# Altium footprint library footprint.PcbLib: 56 footprints (part 4 of 4)
Each footprint in its own frame and in the unit in brackets; x right, y up, seen from the top. Pads: shape width x height; smd on the part's side, far side on the other; paste and mask are expansions set on the pad; w line width, h text height; cw(c..) or ccw(c..) is an arc to the next point about the centre after c.
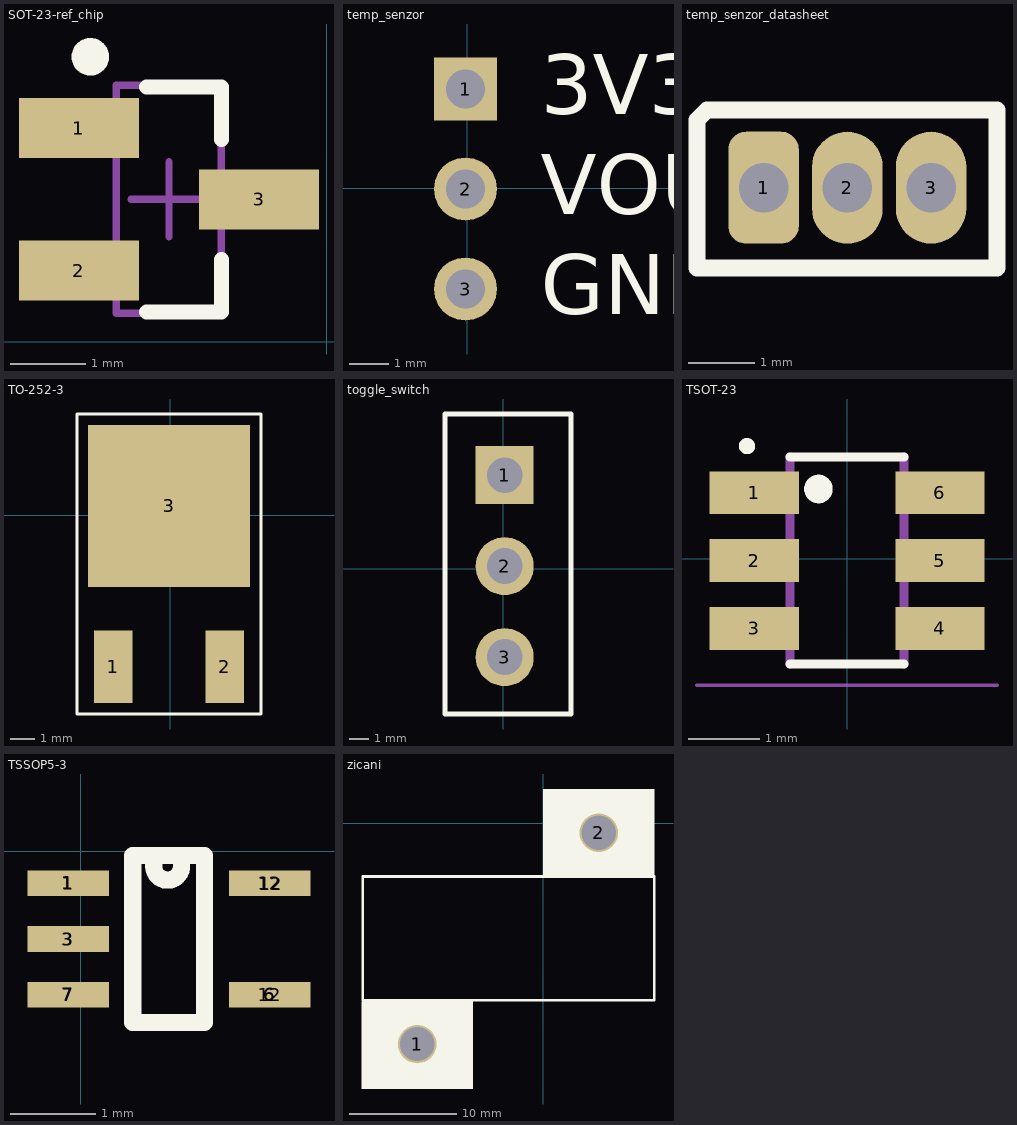
[diagram p3: the footprints below, top view; thin cyan lines are the x and y axes]

## SOT-23-ref_chip [mm] "SOT23, 3-Leads, Body 2,92x2,80mm, Pitch 0,95mm, IPC Medium Density"
height 1.45
pads (3):
  rect 1.6x0.8 smd: 1(-3.3,2.85) 2(-3.3,0.95) 3(-0.9,1.9)
Top Overlay:
  circle w0.25: c-3.15,3.8 r0.125
  lines w0.2: -2.4,0.4 -1.4,0.4 -1.4,1.1 ; -2.4,3.4 -1.4,3.4 -1.4,2.7
Mechanical 13:
  lines w0.1: -2.8,0.38 -1.4,0.38 -1.4,3.42 -2.8,3.42 -2.8,0.38
Mechanical 15:
  lines w0.1: -2.6,1.9 -1.6,1.9 ; -2.1,1.4 -2.1,2.4
3D body: height 1.45, standoff 1.12, extent -2.8,0.38 -1.4,3.42

## temp_senzor [mm]
pads (3):
  rect 1.6x1.6 hole 1: 1(-0.049,2.521)
  round 1.6 hole 1: 2(-0.049,-0.019) 3(-0.049,-2.559)
Mid-Layer 9:
  lines w0.254: -1.319,-3.829 -1.319,3.791 1.221,3.791 1.221,-3.829 -1.319,-3.829
Top Overlay:
  text "GND" at 1.856,-3.194 h1.52
  text "3V3" at 1.856,1.886 h1.52
  text "VOUT" at 1.856,-0.654 h1.52

## temp_senzor_datasheet [mm]
pads (3):
  rrect50% 1.07x1.7 hole 0.75: 1(-167.64,73.82)
  oval 1.07x1.7 hole 0.75: 2(-166.37,73.82) 3(-165.1,73.82)
Top Overlay:
  lines w0.254: -168.65,72.6 -164.1,72.6 -164.1,75 -168.5,75 -168.65,74.85 -168.65,72.6

## TO-252-3 [mm]
pads (3):
  rect 1.6x3 smd paste-25.4 mask-25.4: 1(-2.348,-6.266) 2(2.252,-6.266)
  rect 6.7x6.7 smd paste-25.4 mask-25.4: 3(-0.048,0.384)
Top Overlay:
  lines w0.127: -3.848,-8.216 -3.848,4.184 3.752,4.184 3.752,-8.216 -3.848,-8.216
Top Paste:
  region: 3.052,-7.766 3.052,-4.766 1.452,-4.766 1.452,-7.766
  region: -1.548,-7.766 -1.548,-4.766 -3.148,-4.766 -3.148,-7.766
  region: -3.398,-2.966 3.302,-2.966 3.302,3.734 -3.398,3.734
Top Solder:
  region: 3.052,-7.766 3.052,-4.766 1.452,-4.766 1.452,-7.766
  region: -1.548,-7.766 -1.548,-4.766 -3.148,-4.766 -3.148,-7.766
  region: -3.398,-2.966 3.302,-2.966 3.302,3.734 -3.398,3.734

## toggle_switch [mm]
pads (3):
  rect 3x3 hole 1.85: 1(0.08,4.84)
  round 3 hole 1.85: 2(0.08,0.14) 3(0.08,-4.56)
Top Overlay:
  lines w0.254: -3,-7.5 -3,8 3.5,8 3.5,-7.5 -3,-7.5

## TSOT-23 [mm] "Aluminum Electrolytic Capacitor, Body 8,30x8,30x0,30mm, IPC Low Density"
height 0.3
pads (6):
  rect 1.25x0.6 smd paste-25.4 mask-25.4: 1(-1.3,0.925) 2(-1.3,-0.025) 3(-1.3,-0.975) 4(1.3,-0.975) 5(1.3,-0.025) 6(1.3,0.925)
Top Overlay:
  circle w0.127: c-1.402,1.577 r0.05
  circle w0.2: c-0.402,0.977 r0.1
  lines w0.127: -0.802,-1.473 0.798,-1.473 ; -0.802,1.427 0.798,1.427
Top Paste:
  region: -1.827,-0.323 -0.777,-0.323 -0.777,0.277 -1.827,0.277
  region: -1.827,0.627 -0.777,0.627 -0.777,1.227 -1.827,1.227
  region: -1.827,-1.273 -0.777,-1.273 -0.777,-0.673 -1.827,-0.673
  region: 0.773,-0.323 1.823,-0.323 1.823,0.277 0.773,0.277
  region: 0.773,0.627 1.823,0.627 1.823,1.227 0.773,1.227
  region: 0.773,-1.273 1.823,-1.273 1.823,-0.673 0.773,-0.673
Top Solder:
  region: -1.827,-0.323 -0.777,-0.323 -0.777,0.277 -1.827,0.277
  region: -1.827,0.627 -0.777,0.627 -0.777,1.227 -1.827,1.227
  region: -1.827,-1.273 -0.777,-1.273 -0.777,-0.673 -1.827,-0.673
  region: 0.773,-0.323 1.823,-0.323 1.823,0.277 0.773,0.277
  region: 0.773,0.627 1.823,0.627 1.823,1.227 0.773,1.227
  region: 0.773,-1.273 1.823,-1.273 1.823,-0.673 0.773,-0.673
Mechanical 1:
  lines w0.05: -2.102,-1.773 2.098,-1.773
Mechanical 13:
  lines w0.127: -0.802,-1.473 -0.802,1.427 ; 0.798,-1.473 0.798,1.427

## TSSOP5-3 [mm]
pads (15):
  rect 0.92x0.3 on Top Paste paste-25.44 mask-25.44: 1(-0.15,-0.37) 3(-0.15,-1.03) 6(2.21,-1.67) 12(2.22,-0.38)
  rect 1.15x0.5 on Top Solder paste-25.44 mask-25.44: 1(-0.143,-0.376) 3(-0.143,-1.026) 7(-0.143,-1.67) 12(2.207,-1.676) 12(2.207,-0.376)
  rect 0.95x0.3 smd paste-25.44 mask-25.44: 1(-0.143,-0.375) 3(-0.143,-1.026) 6(2.207,-1.676) 12(2.207,-0.376)
  rect 0.92x0.3 on Top Paste paste-25.4 mask-25.4: 7(-0.15,-1.67)
  rect 0.95x0.3 smd paste-25.4 mask-25.4: 7(-0.143,-1.676)
Top Overlay:
  lines w0.2: 0.854,-0.178 ccw(c1.016,-0.178) 1.178,-0.178 ; 0.87,-2.001 1.448,-2.001 1.448,-0.051 0.61,-0.051 0.61,-2.001 1.195,-2.001

## zicani [mm]
pads (2):
  round 3.6 hole 3.2: 1(-11.8,-20.7) 2(5.2,-0.9)
Top Overlay:
  rectangle: -17,-24.9 -6.6,-16.7
  rectangle: 0,-5 10.4,3.2
  lines w0.254: -16.9,-5 -16.9,-16.6 10.4,-16.6 10.4,-5 -16.9,-5 ; -16.9,-5 -16.9,-5